# Altium footprint library PTN78020W.PcbLib: 1 footprints
Each footprint in its own frame and in the unit in brackets; x right, y up, seen from the top. Pads: shape width x height; smd on the part's side, far side on the other; paste and mask are expansions set on the pad; w line width, h text height; cw(c..) or ccw(c..) is an arc to the next point about the centre after c.
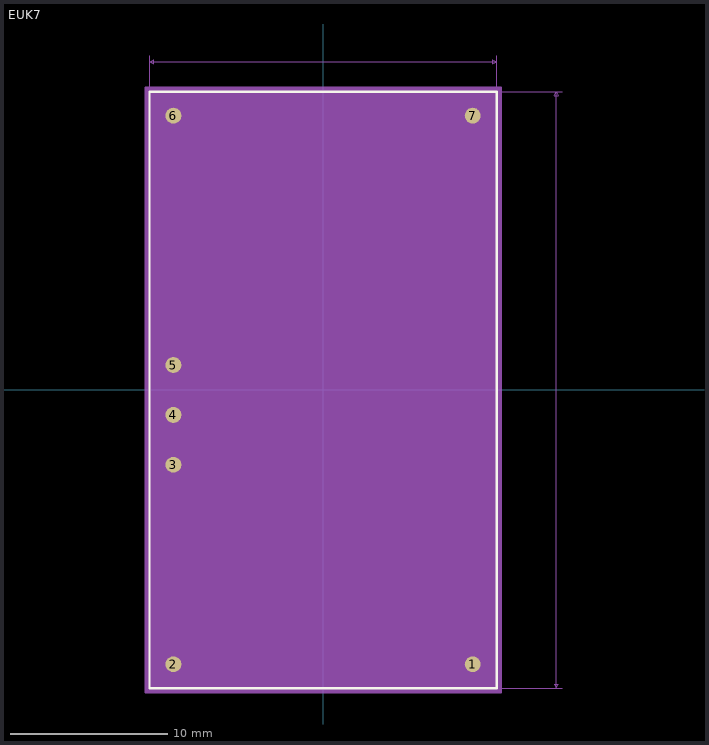
[diagram p0: the footprint, top view; thin cyan lines are the x and y axes]

## EUK7 [mil]
pads (7):
  round 40 smd: 1(375,-687.5) 2(-375,-687.5) 3(-375,-187.5) 4(-375,-62.5) 5(-375,62.5) 6(-375,687.5) 7(375,687.5)
Top Overlay:
  lines w6: -435,-747.5 435,-747.5 435,747.5 -435,747.5 -435,-747.5
Mechanical 5:
  region: 435,-750 -435,-750 -435,745 435,745
Mechanical 7:
  lines w1: -435,0 -435,837.5 ; 0,-747.5 600,-747.5 ; 0,747.5 600,747.5 ; 435,0 435,837.5 ; -435,822.5 435,822.5 ; -435,822.5 -425,827.5 -425,817.5 -435,822.5 ; 435,822.5 425,827.5 425,817.5 435,822.5 ; 585,-747.5 585,747.5 ; 585,-747.5 580,-737.5 590,-737.5 585,-747.5 ; 585,747.5 580,737.5 590,737.5 585,747.5
  text "Default Padstyle: EX40Y40D0T" at -350,-947.5 h50
  text ".87in/22.098mm" at -87.5,842.5 h25
  text "1.495in/37.973mm" at 605,-12.5 h25
Mechanical 13:
  lines w1: -435,-747.5 435,-747.5 435,747.5 -435,747.5 -435,-747.5
Mechanical 15:
  region: 445,-757.5 -445,-757.5 -445,757.5 445,757.5
  lines w6: -445,-757.5 -445,757.5 445,757.5 445,-757.5 -445,-757.5
3D body: height 117, standoff -113, extent -330,-795 -330,-795
3D body: height 20, standoff 10, extent -435,-750 430,740
3D body: height 117, standoff -113, extent -430,745 -430,745
3D body: height 117, standoff -113, extent -430,745 -430,745
3D body: height 10, standoff 0, extent 0,0 10,10